# Altium footprint library PERSEUS_Footprints.PcbLib: 4 footprints
Each footprint in its own frame and in the unit in brackets; x right, y up, seen from the top. Pads: shape width x height; smd on the part's side, far side on the other; paste and mask are expansions set on the pad; w line width, h text height; cw(c..) or ccw(c..) is an arc to the next point about the centre after c.
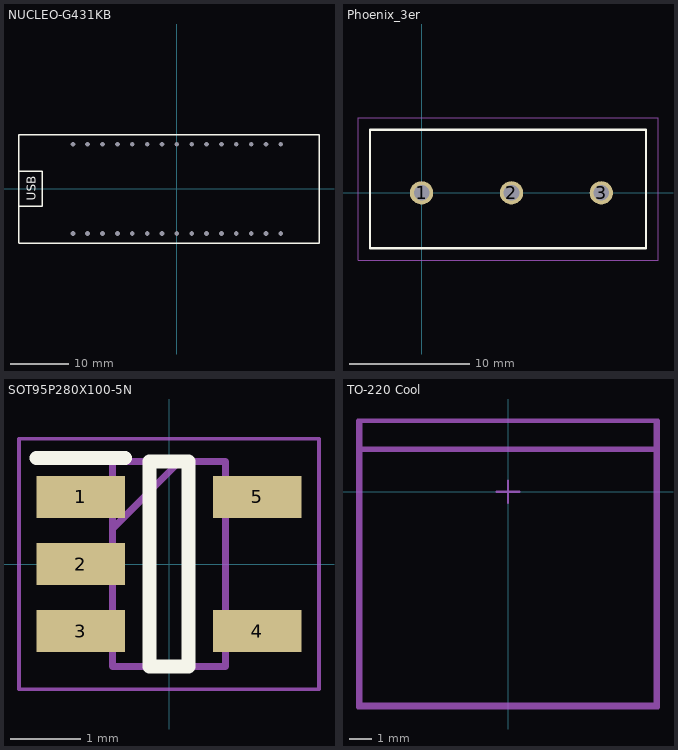
[diagram p0: the footprints below, top view; thin cyan lines are the x and y axes]

## NUCLEO-G431KB [mil]
pads (30):
  round 1 / inner round 60 / far side round 60 hole 32: 1(-700,-300) 2(-601.01,-300) 3(-500,-300) 4(-400,-300) 5(-300,-300) 6(-200,-300) 7(-100,-300) 8(0,-300) 9(100,-300) 10(200,-300) 11(300,-300) 12(400,-300) 13(500,-300) 14(600,-300) 15(700,-300) 16(700,300) 17(600,299.39) 18(500,300) 19(400,300) 20(300,300) 21(200,300) 22(100,300) 23(0,300) 24(-100,300) 25(-200,300) 26(-300,299.39) 27(-400,299.39) 28(-500,300) 29(-601.01,299.39) 30(-700,300)
Top Layer:
  text "Checked	577202B00000G	Heat Sink, Fin, Transverse, Aluminum, Anodized	Heat Sinks	0,81" at -1780,290 h60
Top Overlay:
  lines w10: -1062.99,-365 -1062.99,364.17 956.97,364.17 956.97,-366.5 -1062.4,-366.5 ; -1062.99,118.11 -905.51,118.11 -905.51,-118.11 -1062.4,-118.11
  text "USB" at -950.94,-80.55 h60
3D body: height 393.7, standoff 0, extent -1062.99,-366.5 956.97,364.17

## Phoenix_3er [mm]
pads (3):
  round 1.95 hole 1.3: 1(0,0) 2(7.5,0) 3(15,0)
Top Overlay:
  lines w0.2: -4.3,-4.6 -4.3,5.25 18.72,5.25 18.72,-4.6 -4.3,-4.6
Mechanical 15:
  lines w0.1: -4.3,-4.6 -4.3,5.25 18.72,5.25 18.72,-4.6 -4.3,-4.6
Mechanical 20:
  lines w0.1: -5.3,-5.6 -5.3,6.25 19.72,6.25 19.72,-5.6 -5.3,-5.6

## SOT95P280X100-5N [mm]
pads (5):
  rect 1.25x0.6 smd: 1(-1.25,0.95) 2(-1.25,0) 3(-1.25,-0.95) 4(1.25,-0.95) 5(1.25,0.95)
Top Overlay:
  lines w0.2: -1.875,1.5 -0.625,1.5 ; -0.275,-1.45 0.275,-1.45 0.275,1.45 -0.275,1.45 -0.275,-1.45
Mechanical 15:
  lines w0.1: -0.8,0.5 0.15,1.45 ; -0.8,-1.45 0.8,-1.45 0.8,1.45 -0.8,1.45 -0.8,-1.45
Mechanical 20:
  lines w0.05: -2.125,-1.775 2.125,-1.775 2.125,1.775 -2.125,1.775 -2.125,-1.775

## TO-220 Cool [mil] "FP-577202B00000G-MFG"
Top Assembly:
  lines w7.87: -263.98,-378.94 263.98,-378.94 263.98,125 -263.98,125 -263.98,-378.94
  lines w10: -260,75 260,75
Top 3D Body:
  lines w7.87: -260.04,-375 260.04,-375 260.04,125 -260.04,125 -260.04,-375
Top Component Center:
  lines w3.94: -19.68,0 19.68,0 ; 0,-19.68 0,19.68
3D body: height 10, standoff 0, extent -260,-375 260,125